# EAGLE library part LSM9DS1TR_9AXIS_IMU (library quadparts_ChengYuan)
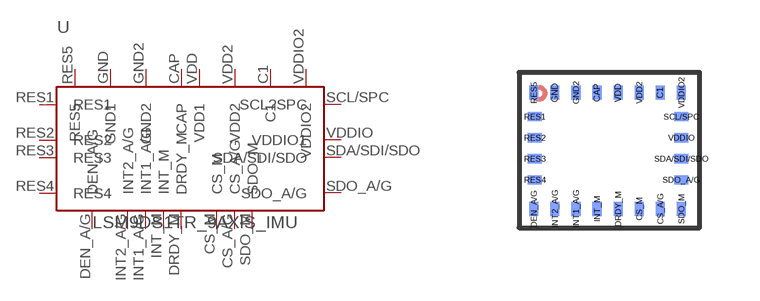
[diagram p0: symbol with the pads of LSM9DS1TR_IMU; footprint LSM9DS1TR_IMU]

Designator prefix -

## LSM9DS1TR_9AXIS_IMU (CREATOR: ChengYuan Cheng; DIST: Digikey; DISTPN: 497-14946-1-ND; MFR: STMicroelectronics; MPN: LSM9DS1TR)  [LSM9DS1TR_IMU]
C1  C1  pas
CAP  CAP  pas
CS_A/G  CS_A/G  pas
CS_M  CS_M  pas
DEN_A/G  DEN_A/G  pas
DRDY_M  DRDY_M  pas
GND  GND1  pas
GND2  GND2  pas
INT1_A/G  INT1_A/G  pas
INT2_A/G  INT2_A/G  pas
INT_M  INT_M  pas
RES1  RES1  pas
RES2  RES2  pas
RES3  RES3  pas
RES4  RES4  pas
RES5  RES5  pas
SCL/SPC  SCL?SPC  pas
SDA/SDI/SDO  SDA/SDI/SDO  pas
SDO_A/G  SDO_A/G  pas
SDO_M  SDO_M  pas
VDD  VDD1  pas
VDD2  VDD2  pas
VDDIO  VDDIO1  pas
VDDIO2  VDDIO2  pas

## Footprint LSM9DS1TR_IMU (pad centres in mm)
smd 0.23 x 0.35 bottom: C1 1.324,1.145; CAP -0.257,1.145; CS_A/G 1.324,-1.763; CS_M 0.797,-1.763; DEN_A/G -1.838,-1.763; DRDY_M 0.27,-1.763; GND -1.311,1.145; GND2 -0.784,1.145; INT1_A/G -0.784,-1.763; INT2_A/G -1.311,-1.763; INT_M -0.257,-1.763; RES5 -1.838,1.145; SDO_M 1.851,-1.763; VDD 0.27,1.145; VDD2 0.797,1.145; VDDIO2 1.851,1.145
smd 0.35 x 0.23 bottom: RES1 -1.811,0.545; RES2 -1.811,0.018; RES3 -1.811,-0.509; RES4 -1.811,-1.036; SCL/SPC 1.851,0.545; SDA/SDI/SDO 1.851,-0.509; SDO_A/G 1.851,-1.036; VDDIO 1.851,0.018